# EAGLE library part HDSP-*8 (library LED displeje)
LED displej 14,2 mm
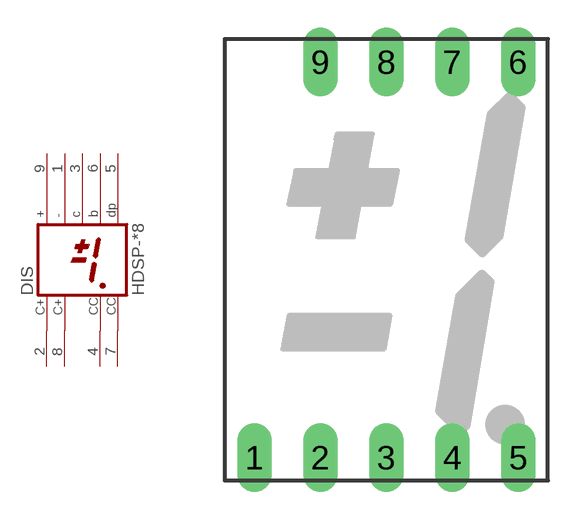
[diagram p54: symbol with the pads of HDSP-O; footprint HDSP-O]

Designator prefix DIS

## HDSP-5508  [HDSP-O]
1  -  pas
2  C+  pas
3  C  pas
4  CC  pas
5  DP  pas
6  B  pas
7  CC  pas
8  C+  pas
9  +  pas

## Footprint HDSP-O (pad centres in mm)
LED DISPLAY 15-mm + - 1/2 character, decimal point right
drill 0.813 long: 1 -5.08,-7.62; 2 -2.54,-7.62; 3 0,-7.62; 4 2.54,-7.62; 5 5.08,-7.62; 6 5.08,7.62; 7 2.54,7.62; 8 0,7.62; 9 -2.54,7.62